# Altium schematic symbol library ldos.SchLib: 1 symbol
Pins are listed as number, name and electrical type; pins without a type are passive.

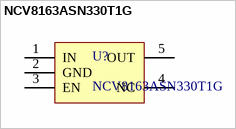
[diagram p0: symbol NCV8163ASN330T1G]

## NCV8163ASN330T1G
designator U?
3V3 250 mA LDO
footprint NCV8163ASN330T1G_TSOP5 (TSOP, 5-Leads, Body 3,00x1,50mm, Pitch 0,95mm, IPC Medium Density)
pins: 1 IN, 2 GND, 3 EN, 4 NC, 5 OUT